# EAGLE library part DPDT (library RoboJackets-Switches)
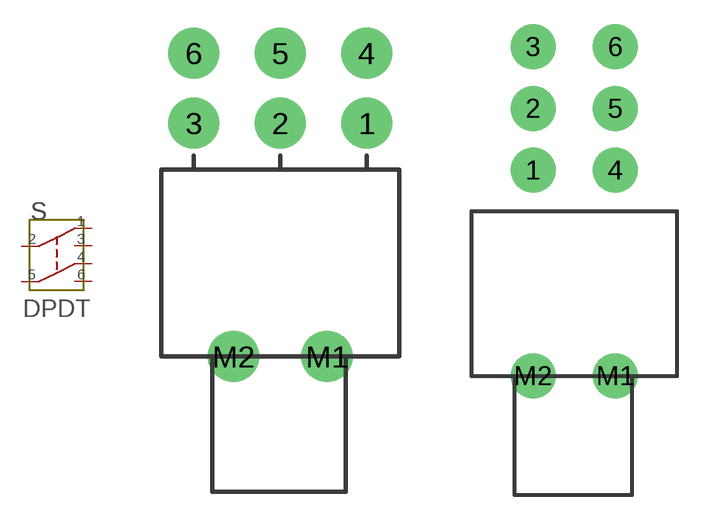
[diagram p0: symbol with the pads of M202X-30; footprints M202X-30, M202X-40]

Designator prefix S

## DPDTM2022-30  [M202X-30]
1  NC1  pas
2  C1  pas
3  NO1  pas
4  NC2  pas
5  C2  pas
6  NO2  pas

## DPDTM2022-40  [M202X-40]
Pads as for M202X-30

## Footprint M202X-30 (pad centres in mm)
drill 1.854: 1 4.699,12.7; 2 0,12.7; 3 -4.699,12.7; 4 4.699,16.51; 5 0,16.51; 6 -4.699,16.51; M1 2.54,0; M2 -2.54,0

## Footprint M202X-40 (pad centres in mm)
drill 1.854: 1 -2.54,12.7; 2 -2.54,16.51; 3 -2.54,20.32; 4 2.54,12.7; 5 2.54,16.51; 6 2.54,20.32; M1 2.54,0; M2 -2.54,0